# Altium schematic symbol library Schematics.SchLib: 4 symbols
Pins are listed as number, name and electrical type; pins without a type are passive.

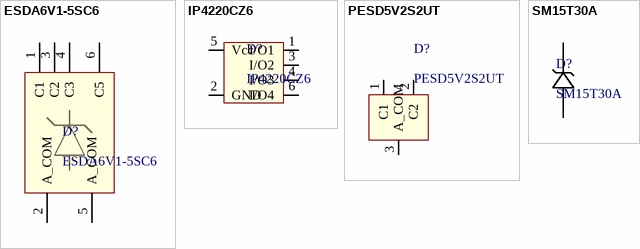
[diagram p0: symbols ESDA6V1-5SC6 to SM15T30A]

## ESDA6V1-5SC6
designator D?
footprint LC-SOT-23-6
pins: 1 C1, 2 A_COM, 3 C2, 4 C3, 5 A_COM, 6 C5

## IP4220CZ6
designator D?
4 TVS 5.5V diodes
footprint LC-TSOP-6
pins: 1 I/O1, 2 GND, 3 I/O2, 4 I/O3, 5 Vcc, 6 I/O4

## PESD5V2S2UT
designator D?
2 TVS 5.2V diodes
footprint LC-SOT-23(SOT-23-3)
pins: 1 C1, 2 C2, 3 A_COM

## SM15T30A
designator D?
1 TVS 30V Diode
footprint LC-SMC(DO-214AB)_S3
pins: A, K